# Altium schematic symbol library ICwT.SchLib: 2 symbols
Pins are listed as number, name and electrical type; pins without a type are passive.

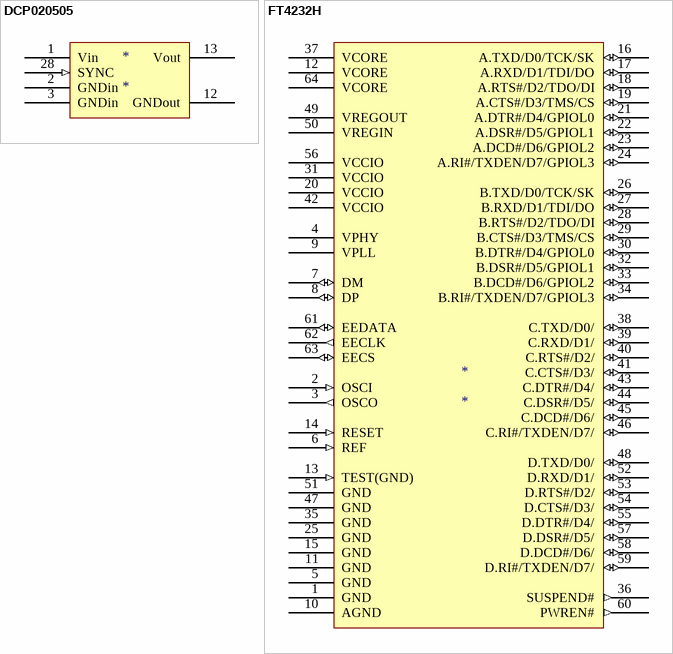
[diagram p0: symbols DCP020505 to FT4232H]

## DCP020505
designator *
pins: 1 Vin (power), 2 GNDin (power), 3 GNDin (power), 12 GNDout (power), 13 Vout (power), 14 NC hidden, 15 NC hidden, 16 NC hidden, 17 NC hidden, 26 NC hidden, 27 NC hidden, 28 SYNC (in)

## FT4232H
designator *
pins: 1 GND (power), 2 OSCI (in), 3 OSCO (out), 4 VPHY (power), 5 GND (power), 6 REF (in), 7 DM (io), 8 DP (io), 9 VPLL (power), 10 AGND (power), 11 GND (power), 12 VCORE (power), 13 TEST(GND) (in), 14 RESET (in), 15 GND (power), 16 A.TXD/D0/TCK/SK (io), 17 A.RXD/D1/TDI/DO (io), 18 A.RTS#/D2/TDO/DI (io), 19 A.CTS#/D3/TMS/CS (io), 20 VCCIO (power), 21 A.DTR#/D4/GPIOL0 (io), 22 A.DSR#/D5/GPIOL1 (io), 23 A.DCD#/D6/GPIOL2 (io), 24 A.RI#/TXDEN/D7/GPIOL3 (io), 25 GND (power), 26 B.TXD/D0/TCK/SK (io), 27 B.RXD/D1/TDI/DO (io), 28 B.RTS#/D2/TDO/DI (io), 29 B.CTS#/D3/TMS/CS (io), 30 B.DTR#/D4/GPIOL0 (io), 31 VCCIO (power), 32 B.DSR#/D5/GPIOL1 (io), 33 B.DCD#/D6/GPIOL2 (io), 34 B.RI#/TXDEN/D7/GPIOL3 (io), 35 GND (power), 36 SUSPEND# (out), 37 VCORE (power), 38 C.TXD/D0/ (io), 39 C.RXD/D1/ (io), 40 C.RTS#/D2/ (io), 41 C.CTS#/D3/ (io), 42 VCCIO (power), 43 C.DTR#/D4/ (io), 44 C.DSR#/D5/ (io), 45 C.DCD#/D6/ (io), 46 C.RI#/TXDEN/D7/ (io), 47 GND (power), 48 D.TXD/D0/ (io), 49 VREGOUT, 50 VREGIN, 51 GND (power), 52 D.RXD/D1/ (io), 53 D.RTS#/D2/ (io), 54 D.CTS#/D3/ (io), 55 D.DTR#/D4/ (io), 56 VCCIO (power), 57 D.DSR#/D5/ (io), 58 D.DCD#/D6/ (io), 59 D.RI#/TXDEN/D7/ (io), 60 PWREN# (out), 61 EEDATA (io), 62 EECLK (out), 63 EECS (io), 64 VCORE (power)